# Altium integrated library eFuses.IntLib: 2 symbols
Pins are listed as number, name and electrical type; pins without a type are passive.

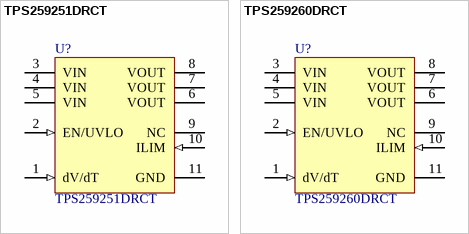
[diagram p0: symbols TPS259251DRCT to TPS259260DRCT]

## TPS259251DRCT
designator U?
TEXAS INSTRUMENTS         TPS259251DRCT             E-Fuse Protection Switch, 4.5V to 5.5V supply, VSON-10; Number of Channels: 1; Operating Supply Voltage: 5V; Max Output Current: 5A; Operating Supply Current: 470uA; Max Supply Current: 600uA; Supplier 1: Digi-Key; Manufacturer: Texas Instruments; Manufacturer Part Number: TPS259251DRCT; Stock 1: 2399; Pricing 1: 1=1.58, 10=1.422, 100=1.1426 (USD); Mount: Surface Mount; Number of Pins: 10; Min Operating Temperature: -40°C; Max Operating Temperature: 85°C; Min Supply Voltage: 4.5V; Max Supply Voltage: 5.5V; Packaging: Cut Tape; Features: Auto Retry,Thermal Limit,OVP; Lead Free: Lead Free; REACH SVHC: No SVHC; ComponentLink1URL: http://www.ti.com/general/docs/lit/getliterature.tsp?genericPartNumber=TPS25925&&fileType=pdf; ComponentLink1Description: http://www.ti.com/general/docs/lit/getliterature.tsp?genericPartNumber=TPS25925&&fileType=pdf; ComponentLink2URL: http://www.ti.com/lit/ds/symlink/tps25925.pdf; ComponentLink2Description: http://www.ti.com/lit/ds/symlink/tps25925.pdf; Value: TPS259251DRCT; Supplier Part Number 1: 296-42967-1-ND
footprint SON50P300X100_HS-11N (SON, 10-Leads, Body 3.00x3.00mm, Pitch 0.50mm, Thermal Pad 2.40x1.34mm, IPC Medium Density)
pins: 1 dV/dT (in), 2 EN/UVLO (in), 3 VIN, 4 VIN, 5 VIN, 6 VOUT, 7 VOUT, 8 VOUT, 9 NC, 10 ILIM (in), 11 GND

## TPS259260DRCT
designator U?
TEXAS INSTRUMENTS         TPS259260DRCT             E-Fuse Protection Switch, 4.5V to 13.8V supply, VSON-10; Number of Channels: 1; Operating Supply Voltage: 12V; Max Output Current: 5A; Operating Supply Current: 470uA; Max Supply Current: 550uA; Supplier 1: Digi-Key; Manufacturer: Texas Instruments; Manufacturer Part Number: TPS259260DRCT; Stock 1: 1653; Pricing 1: 1=1.58, 10=1.422, 100=1.1426 (USD); Mount: Surface Mount; Number of Pins: 10; Min Operating Temperature: -40°C; Max Operating Temperature: 85°C; Min Supply Voltage: 4.5V; Max Supply Voltage: 13.8V; Packaging: Cut Tape; Features: Latched Fault,Thermal Limit,OVP; Lead Free: Lead Free; REACH SVHC: No SVHC; ComponentLink1URL: http://www.ti.com/general/docs/lit/getliterature.tsp?genericPartNumber=TPS25925&&fileType=pdf; ComponentLink1Description: http://www.ti.com/general/docs/lit/getliterature.tsp?genericPartNumber=TPS25925&&fileType=pdf; ComponentLink2URL: http://www.ti.com/general/docs/lit/getliterature.tsp?genericPartNumber=TPS25926&&fileType=pdf; ComponentLink2Description: http://www.ti.com/general/docs/lit/getliterature.tsp?genericPartNumber=TPS25926&&fileType=pdf; ComponentLink3URL: http://www.ti.com/lit/ds/symlink/tps25925.pdf; ComponentLink3Description: http://www.ti.com/lit/ds/symlink/tps25925.pdf; Value: TPS259260DRCT; Supplier Part Number 1: 296-42968-6-ND
footprint SON50P300X100_HS-11N (SON, 10-Leads, Body 3.00x3.00mm, Pitch 0.50mm, Thermal Pad 2.40x1.34mm, IPC Medium Density)
pins: 1 dV/dT (in), 2 EN/UVLO (in), 3 VIN, 4 VIN, 5 VIN, 6 VOUT, 7 VOUT, 8 VOUT, 9 NC, 10 ILIM (in), 11 GND